# Altium footprint library WikiAudio.PcbLib: 23 footprints (part 2 of 2)
Each footprint in its own frame and in the unit in brackets; x right, y up, seen from the top. Pads: shape width x height; smd on the part's side, far side on the other; paste and mask are expansions set on the pad; w line width, h text height; cw(c..) or ccw(c..) is an arc to the next point about the centre after c.
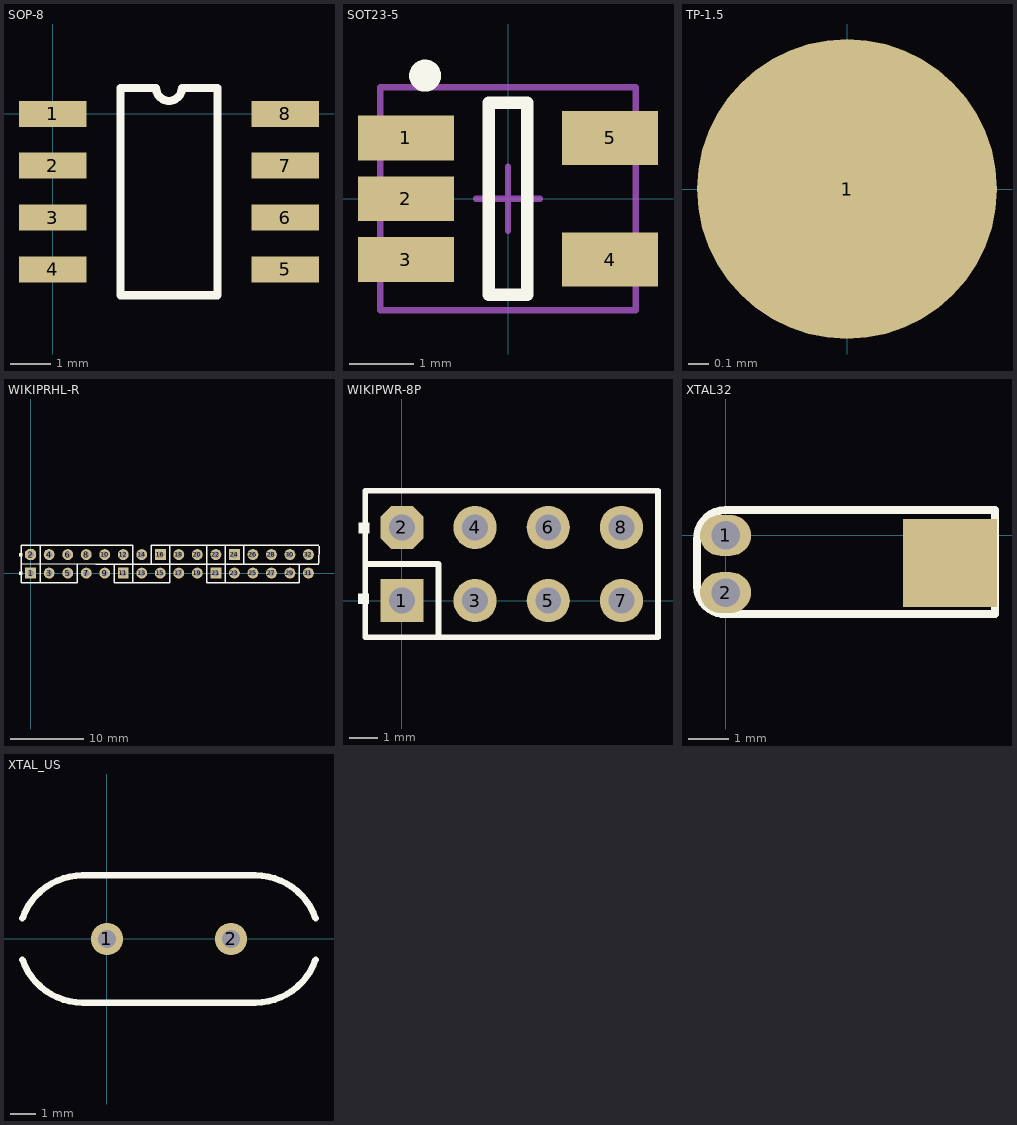
[diagram p1: the footprints below, top view; thin cyan lines are the x and y axes]

## SOP-8 [mil]
pads (8):
  rect 65x25 smd: 1(0,0) 2(0,-50) 3(0,-100) 4(0,-150) 5(224.41,-150) 6(224.41,-100) 7(224.41,-50) 8(224.41,0)
Top Overlay:
  lines w7.87: 65.37,-175 159.04,-175 159.04,25 124.7,25 cw(c112.2,25) 99.7,25 65.37,25 65.37,-175

## SOT23-5 [mm]
pads (5):
  rect 1.5x0.7 smd: 1(-1.595,0.95) 2(-1.595,0) 3(-1.595,-0.95)
  rect 1.5x0.85 smd: 4(1.595,-0.95) 5(1.595,0.95)
Top Overlay:
  circle w0.25: c-1.295,1.925 r0.125
  lines w0.2: -0.3,-1.5 0.3,-1.5 0.3,1.5 -0.3,1.5 -0.3,-1.5
Mechanical 15:
  lines w0.1: -0.5,0 0.5,0 ; 0,-0.5 0,0.5 ; -2,-1.745 -2,1.745 2,1.745 2,-1.745 -2,-1.745
3D body: height 1.09, standoff -0.01, extent -1.395,-1.46 1.406,1.44

## TP-1.5 [mm]
pads (1):
  round 1.5 smd: 1(0,0)

## WIKIPRHL-R [mm] "Connector; Header; 16x2 Position"
height 2.13
pads (32):
  rect 1.5x1.5 hole 0.9: 1(0,0) 11(12.7,0) 16(17.78,2.54) 21(25.4,0) 24(27.94,2.54)
  oct 1.5x1.5 hole 0.9: 2(0,2.54)
  round 1.5 hole 0.9: 3(2.54,0) 4(2.54,2.54) 5(5.08,0) 6(5.08,2.54) 7(7.62,0) 8(7.62,2.54) 9(10.16,0) 10(10.16,2.54) 12(12.7,2.54) 13(15.24,0) 14(15.24,2.54) 15(17.78,0) 17(20.32,0) 18(20.32,2.54) 19(22.86,0) 20(22.86,2.54) 22(25.4,2.54) 23(27.94,0) 25(30.48,0) 26(30.48,2.54) 27(33.02,0) 28(33.02,2.54) 29(35.56,0) 30(35.56,2.54) 31(38.1,0) 32(38.1,2.54)
Top Overlay:
  rectangle: -1.599,2.288 -1.116,2.77
  rectangle: -1.599,-0.252 -1.116,0.23
  lines w0.2: -1.295,1.245 13.995,1.245 ; 1.295,-1.295 1.295,1.245 1.295,3.785 ; 6.375,1.245 6.375,-1.295 -1.321,-1.295 -1.321,1.067 -1.321,3.607 -1.321,3.785 13.995,3.785 13.995,1.245 ; 8.915,1.245 16.535,1.245 ; 11.455,1.245 11.455,-1.295 19.075,-1.295 19.075,1.245 19.075,3.785 ; 13.995,-1.295 13.995,1.245 ; 24.155,3.75 24.155,1.245 ; 26.695,-1.295 26.695,1.245 26.695,3.785 39.522,3.785 ; 26.722,-1.295 26.722,1.035 ; 26.746,3.785 16.535,3.785 16.535,1.245 ; 29.235,1.245 29.235,3.785 ; 36.728,1.245 39.522,1.245 ; 39.55,1.38 39.55,3.71 ; 16.535,1.245 24.155,1.245 ; 24.155,1.245 24.155,-1.295 36.855,-1.295 36.855,1.245 24.155,1.245
3D body: height 8.51, standoff -3.68, extent 21.613,1.124 24.153,4.044
3D body: height 8.51, standoff -3.68, extent -1.247,1.124 1.293,4.044
3D body: height 8.51, standoff -3.68, extent 6.373,1.124 8.913,4.044
3D body: height 8.51, standoff -3.68, extent 3.833,1.124 6.373,4.044
3D body: height 8.51, standoff -3.68, extent 1.293,1.124 3.833,4.044
3D body: height 8.51, standoff -3.68, extent 8.913,1.124 11.453,4.044
3D body: height 8.51, standoff -3.68, extent 11.453,1.124 13.993,4.044
3D body: height 8.51, standoff -3.68, extent 19.073,1.124 21.613,4.044
3D body: height 8.51, standoff -3.68, extent 16.533,1.124 19.073,4.044
3D body: height 8.51, standoff -3.68, extent 24.128,-1.576 26.668,1.344
3D body: height 8.51, standoff -3.68, extent -1.297,-1.576 1.243,1.344
3D body: height 8.51, standoff -3.68, extent 3.783,-1.576 6.323,1.344
3D body: height 8.51, standoff -3.68, extent 1.243,-1.576 3.783,1.344
3D body: height 8.51, standoff -3.68, extent 11.403,-1.576 13.943,1.344
3D body: height 8.51, standoff -3.68, extent 16.483,-1.576 19.023,1.344
3D body: height 8.51, standoff -3.68, extent 13.943,-1.576 16.483,1.344
3D body: height 8.51, standoff -3.68, extent 26.728,1.124 29.268,4.044
3D body: height 8.51, standoff -3.68, extent 34.348,1.124 36.888,4.044
3D body: height 8.51, standoff -3.68, extent 31.808,1.124 34.348,4.044
3D body: height 8.51, standoff -3.68, extent 29.268,1.124 31.808,4.044
3D body: height 8.51, standoff -3.68, extent 36.888,1.124 39.428,4.044
3D body: height 8.51, standoff -3.68, extent 26.653,-1.626 29.193,1.294
3D body: height 8.51, standoff -3.68, extent 34.273,-1.626 36.813,1.294
3D body: height 8.51, standoff -3.68, extent 31.733,-1.626 34.273,1.294
3D body: height 8.51, standoff -3.68, extent 29.193,-1.626 31.733,1.294

## WIKIPWR-8P [mm] "Connector; Header; 4x2 Position"
pads (8):
  rect 1.5x1.5 hole 0.9: 1(0,0)
  oct 1.5x1.5 hole 0.9: 2(0,2.54)
  round 1.5 hole 0.9: 3(2.54,0) 4(2.54,2.54) 5(5.08,0) 6(5.08,2.54) 7(7.62,0) 8(7.62,2.54)
Top Overlay:
  rectangle: -1.499,2.323 -1.118,2.704
  rectangle: -1.524,-0.127 -1.143,0.254
  lines w0.2: -1.27,1.27 1.27,1.27 1.27,-1.27 ; -1.27,-1.27 -1.27,3.81 8.89,3.81 8.89,-1.27 -1.27,-1.27
3D body: height 8.51, standoff -3.68, extent 6.273,-1.651 8.813,1.269
3D body: height 8.51, standoff -3.68, extent 6.273,1.149 8.813,4.069
3D body: height 8.51, standoff -3.68, extent -1.282,1.149 1.258,4.069
3D body: height 8.51, standoff -3.68, extent 1.258,1.149 3.798,4.069
3D body: height 8.51, standoff -3.68, extent 3.798,1.149 6.338,4.069
3D body: height 8.51, standoff -3.68, extent -1.282,-1.651 1.258,1.269
3D body: height 8.51, standoff -3.68, extent 1.258,-1.651 3.798,1.269
3D body: height 8.51, standoff -3.68, extent 3.798,-1.651 6.338,1.269

## XTAL32 [mil]
pads (3):
  oval 50x40 hole 28: 1(0,0) 2(0,-56)
  rect 92.13x86 smd: ""(220,-27)
Top Overlay:
  lines w8: -28,-50 ccw(c-0.5,-49.5) 0,-77 264,-77 264,25 0,25 ccw(c0.5,-3.5) -28,-4 -28,-50

## XTAL_US [mil]
pads (2):
  round 50 hole 28: 1(0,0) 2(192.13,0)
Top Overlay:
  lines w10: -130.92,-31.85 ccw(c-37.79,0) -37.79,-98.42 ; -130.92,31.85 cw(c-37.79,0) -37.79,98.43 ; -38,98.42 229.92,98.43 cw(c229.92,0) 323.05,31.85 ; -37.8,-98.43 229.92,-98.42 ccw(c229.92,0) 323.05,-31.85